# Altium footprint library 2440PCBV5.PcbLib: 136 footprints (part 2 of 9)
Each footprint in its own frame and in the unit in brackets; x right, y up, seen from the top. Pads: shape width x height; smd on the part's side, far side on the other; paste and mask are expansions set on the pad; w line width, h text height; cw(c..) or ccw(c..) is an arc to the next point about the centre after c.
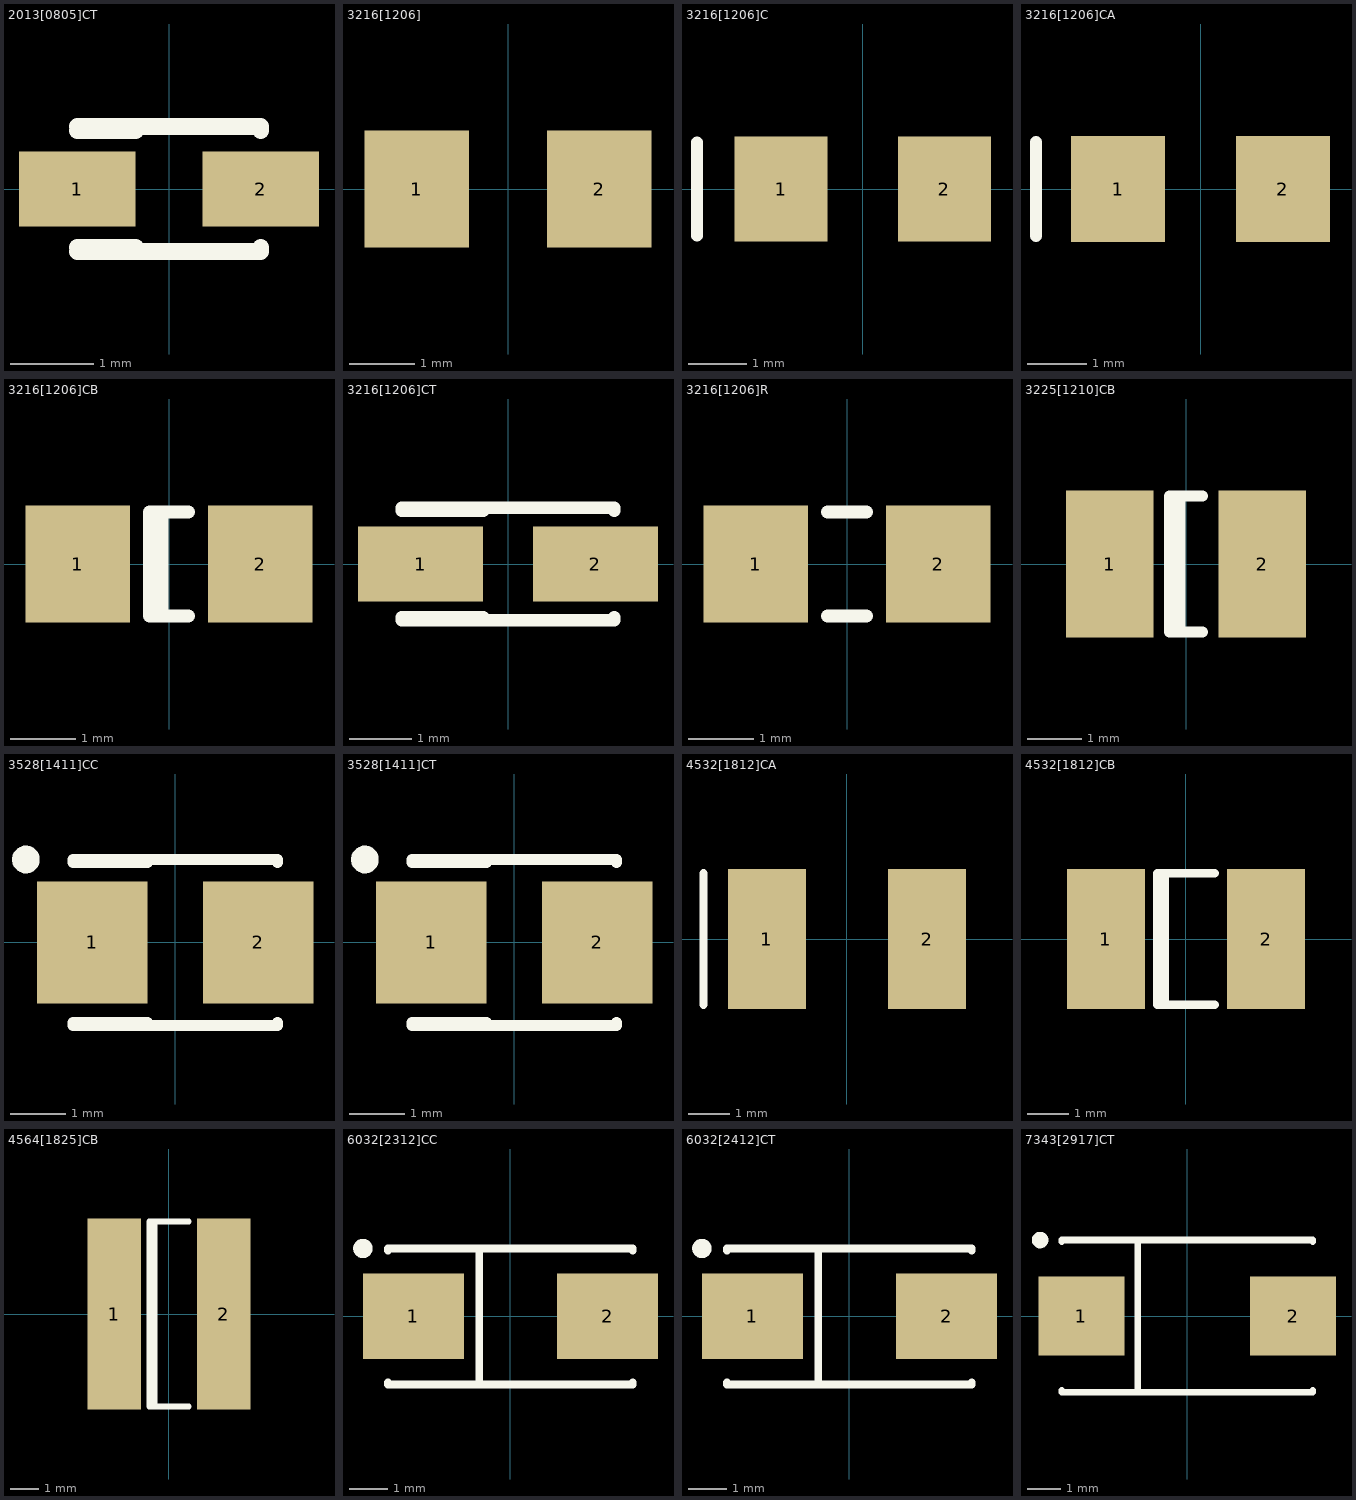
[diagram p1: the footprints below, top view; thin cyan lines are the x and y axes]

## 2013[0805]CT [mm] "Capacitor, SM Tantalum; Body 2.0 x 1.3 mm (LxW typ)"
height 1.2
pads (2):
  rect 1.4x0.9 smd: 1(-1.1,0) 2(1.1,0)
Top Overlay:
  lines w0.2: -1.1,-0.75 1.1,-0.75 1.1,-0.7 ; -1.1,-0.7 -0.4,-0.7 ; -1.1,0.7 -0.4,0.7 ; -1.1,0.75 1.1,0.75 1.1,0.7

## 3216[1206] [mm]
height 0.71
pads (2):
  rect 1.6x1.8 smd: 1(-1.4,0) 2(1.4,0)
3D body: height 0.95, standoff -0.01, extent -2.103,-0.9 2.097,0.9

## 3216[1206]C [mm]
height 0.71
pads (2):
  rect 1.6x1.8 smd: 1(-1.4,0) 2(1.4,0)
Top Overlay:
  lines w0.2: -2.84,-0.8 -2.84,0.8
3D body: height 0.95, standoff -0.01, extent -2.103,-0.9 2.097,0.9

## 3216[1206]CA [mm]
height 0.71
pads (2):
  rect 1.6x1.8 smd: 1(-1.4,0) 2(1.4,0)
Top Overlay:
  lines w0.2: -2.794,-0.8 -2.794,0.8
3D body: height 0.95, standoff -0.01, extent -2.103,-0.9 2.097,0.9

## 3216[1206]CB [mm]
height 0.71
pads (2):
  rect 1.6x1.8 smd: 1(-1.4,0) 2(1.4,0)
Top Overlay:
  lines w0.2: -0.11,-0.8 -0.11,0.8 ; 0.3,-0.8 -0.3,-0.8 -0.3,0.8 0.3,0.8
3D body: height 0.95, standoff -0.01, extent -2.103,-0.9 2.097,0.9

## 3216[1206]CT [mm] "Capacitor, SM Tantalum; Body 3.2 x 1.6 mm (LxW typ)"
height 2.2
pads (2):
  rect 2x1.2 smd: 1(-1.4,0) 2(1.4,0)
Top Overlay:
  lines w0.2: -1.7,-0.9 1.7,-0.9 1.7,-0.85 ; -1.7,-0.85 -0.4,-0.85 ; -1.7,0.85 -0.4,0.85 ; -1.7,0.9 1.7,0.9 1.7,0.85

## 3216[1206]R [mm]
height 0.71
pads (2):
  rect 1.6x1.8 smd: 1(-1.4,0) 2(1.4,0)
Top Overlay:
  lines w0.2: -0.3,-0.8 0.3,-0.8 ; -0.3,0.8 0.3,0.8
3D body: height 0.95, standoff -0.01, extent -2.103,-0.9 2.097,0.9

## 3225[1210]CB [mm] "Chip Capacitor; Body 3.2 x 2.5 mm (LxW typ)"
height 1.35
pads (2):
  rect 1.6x2.7 smd: 1(-1.4,0) 2(1.4,0)
Top Overlay:
  lines w0.2: -0.11,-1.25 -0.11,1.25 ; 0.3,-1.25 -0.3,-1.25 -0.3,1.25 0.3,1.25

## 3528[1411]CC [mm] "Capacitor, SM"
height 2.5
pads (2):
  rect 2x2.2 smd: 1(-1.5,0) 2(1.5,0)
Top Overlay:
  circle w0.25: c-2.7,1.5 r0.125
  lines w0.2: -1.85,-1.5 1.85,-1.5 1.85,-1.45 ; -1.85,-1.45 -0.5,-1.45 ; -1.85,1.45 -0.5,1.45 ; -1.85,1.5 1.85,1.5 1.85,1.45
3D body: height 2.74, standoff 0.64, extent -1.787,-1.312 1.904,1.508

## 3528[1411]CT [mm] "Capacitor, SM Tantalum; Body 3.5 x 2.8 mm (LxW typ)"
height 2.5
pads (2):
  rect 2x2.2 smd: 1(-1.5,0) 2(1.5,0)
Top Overlay:
  circle w0.25: c-2.7,1.5 r0.125
  lines w0.2: -1.85,-1.5 1.85,-1.5 1.85,-1.45 ; -1.85,-1.45 -0.5,-1.45 ; -1.85,1.45 -0.5,1.45 ; -1.85,1.5 1.85,1.5 1.85,1.45

## 4532[1812]CA [mm] "Chip Capacitor; Body 4.5 x 3.2 mm (LxW typ)"
height 1.35
pads (2):
  rect 1.9x3.4 smd: 1(-1.95,0) 2(1.95,0)
Top Overlay:
  lines w0.2: -3.494,-1.6 -3.494,1.6

## 4532[1812]CB [mm] "Chip Capacitor; Body 4.5 x 3.2 mm (LxW typ)"
height 1.35
pads (2):
  rect 1.9x3.4 smd: 1(-1.95,0) 2(1.95,0)
Top Overlay:
  lines w0.2: -0.51,-1.6 -0.51,1.6 ; 0.7,-1.6 -0.7,-1.6 -0.7,1.6 0.7,1.6

## 4564[1825]CB [mm] "Chip Capacitor; Body 4.5 x 6.4 mm (LxW typ)"
height 1.1
pads (2):
  rect 1.9x6.8 smd: 1(-1.95,0) 2(1.95,0)
Top Overlay:
  lines w0.2: -0.51,-3.3 -0.51,3.3 ; 0.7,-3.3 -0.7,-3.3 -0.7,3.3 0.7,3.3

## 6032[2312]CC [mm]
height 3.4
pads (2):
  rect 2.6x2.2 smd: 1(-2.5,0) 2(2.5,0)
Top Overlay:
  circle w0.25: c-3.8,1.75 r0.125
  lines w0.2: -3.15,-1.7 -3.15,-1.75 3.15,-1.75 3.15,-1.7 ; -3.15,1.7 -3.15,1.75 3.15,1.75 3.15,1.7 ; -0.8,-1.75 -0.8,1.75
3D body: height 2.22, standoff -0.47, extent -3.13,-1.556 3.055,1.649

## 6032[2412]CT [mm] "Capacitor, SM Tantalum; Body 6.0 x 3.2 mm (LxW typ)"
height 3.4
pads (2):
  rect 2.6x2.2 smd: 1(-2.5,0) 2(2.5,0)
Top Overlay:
  circle w0.25: c-3.8,1.75 r0.125
  lines w0.2: -3.15,-1.7 -3.15,-1.75 3.15,-1.75 3.15,-1.7 ; -3.15,1.7 -3.15,1.75 3.15,1.75 3.15,1.7 ; -0.8,-1.75 -0.8,1.75

## 7343[2917]CT [mm] "Capacitor, SM Tantalum; Body 7.3 x 4.3 mm (LxW typ)"
height 3.7
pads (2):
  rect 2.6x2.4 smd: 1(-3.2,0) 2(3.2,0)
Top Overlay:
  circle w0.25: c-4.45,2.3 r0.125
  lines w0.2: -3.8,-2.25 -3.8,-2.3 3.8,-2.3 3.8,-2.25 ; -3.8,2.25 -3.8,2.3 3.8,2.3 3.8,2.25 ; -1.5,-2.3 -1.5,2.3